# Altium schematic symbol library IFA-ANTENNA.SchLib: 1 symbol
Pins are listed as number, name and electrical type; pins without a type are passive.

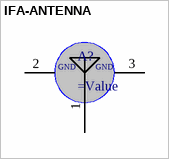
[diagram p0: symbol IFA-ANTENNA]

## IFA-ANTENNA
designator A?
=Description
pins: 1, 2, 3
text: GND